# EAGLE library part VS1063A (library ic-VLSI)
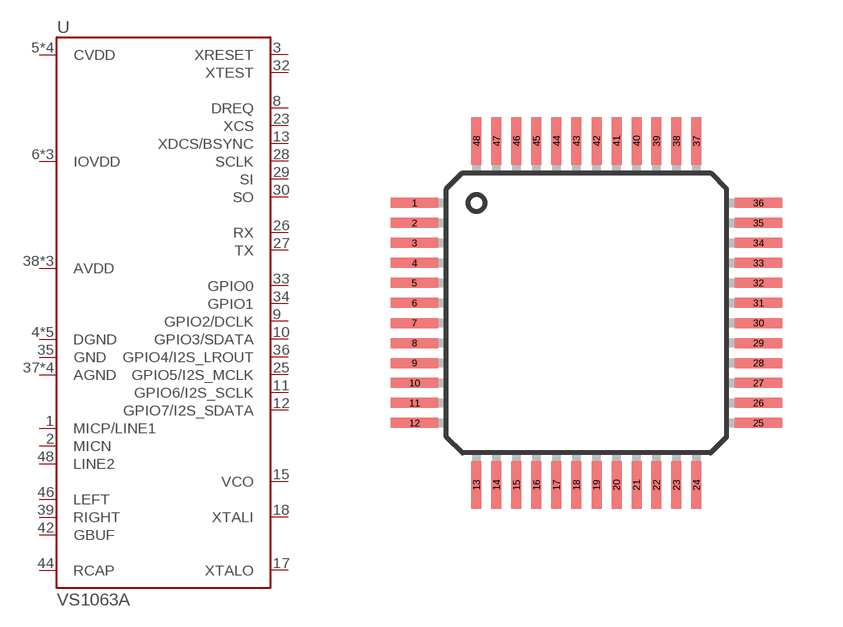
[diagram p0: symbol with the pads of QFP48-0.5; footprint QFP48-0.5]

Designator prefix U

## VS1063A  [QFP48-0.5]
1  MICP/LINE1
2  MICN
3  XRESET
4  DGND
5  CVDD
6  IOVDD
7  CVDD
8  DREQ
9  GPIO2/DCLK
10  GPIO3/SDATA
11  GPIO6/I2S_SCLK
12  GPIO7/I2S_SDATA
13  XDCS/BSYNC
14  IOVDD
15  VCO
16  DGND
17  XTALO
18  XTALI
19  IOVDD
20  DGND
21  DGND
22  DGND
23  XCS
24  CVDD
25  GPIO5/I2S_MCLK
26  RX
27  TX
28  SCLK
29  SI
30  SO
31  CVDD
32  XTEST
33  GPIO0
34  GPIO1
35  GND
36  GPIO4/I2S_LROUT
37  AGND
38  AVDD
39  RIGHT
40  AGND
41  AGND
42  GBUF
43  AVDD
44  RCAP
45  AVDD
46  LEFT
47  AGND
48  LINE2

## Footprint QFP48-0.5 (pad centres in mm)
smd 1.2 x 0.25: 1 -4.3,2.75; 2 -4.3,2.25; 3 -4.3,1.75; 4 -4.3,1.25; 5 -4.3,0.75; 6 -4.3,0.25; 7 -4.3,-0.25; 8 -4.3,-0.75; 9 -4.3,-1.25; 10 -4.3,-1.75; 11 -4.3,-2.25; 12 -4.3,-2.75; 25 4.3,-2.75; 26 4.3,-2.25; 27 4.3,-1.75; 28 4.3,-1.25; 29 4.3,-0.75; 30 4.3,-0.25; 31 4.3,0.25; 32 4.3,0.75; 33 4.3,1.25; 34 4.3,1.75; 35 4.3,2.25; 36 4.3,2.75
smd 0.25 x 1.2: 13 -2.75,-4.3; 14 -2.25,-4.3; 15 -1.75,-4.3; 16 -1.25,-4.3; 17 -0.75,-4.3; 18 -0.25,-4.3; 19 0.25,-4.3; 20 0.75,-4.3; 21 1.25,-4.3; 22 1.75,-4.3; 23 2.25,-4.3; 24 2.75,-4.3; 37 2.75,4.3; 38 2.25,4.3; 39 1.75,4.3; 40 1.25,4.3; 41 0.75,4.3; 42 0.25,4.3; 43 -0.25,4.3; 44 -0.75,4.3; 45 -1.25,4.3; 46 -1.75,4.3; 47 -2.25,4.3; 48 -2.75,4.3